# Altium footprint library footprints.PcbLib: 154 footprints (part 7 of 10)
Each footprint in its own frame and in the unit in brackets; x right, y up, seen from the top. Pads: shape width x height; smd on the part's side, far side on the other; paste and mask are expansions set on the pad; w line width, h text height; cw(c..) or ccw(c..) is an arc to the next point about the centre after c.
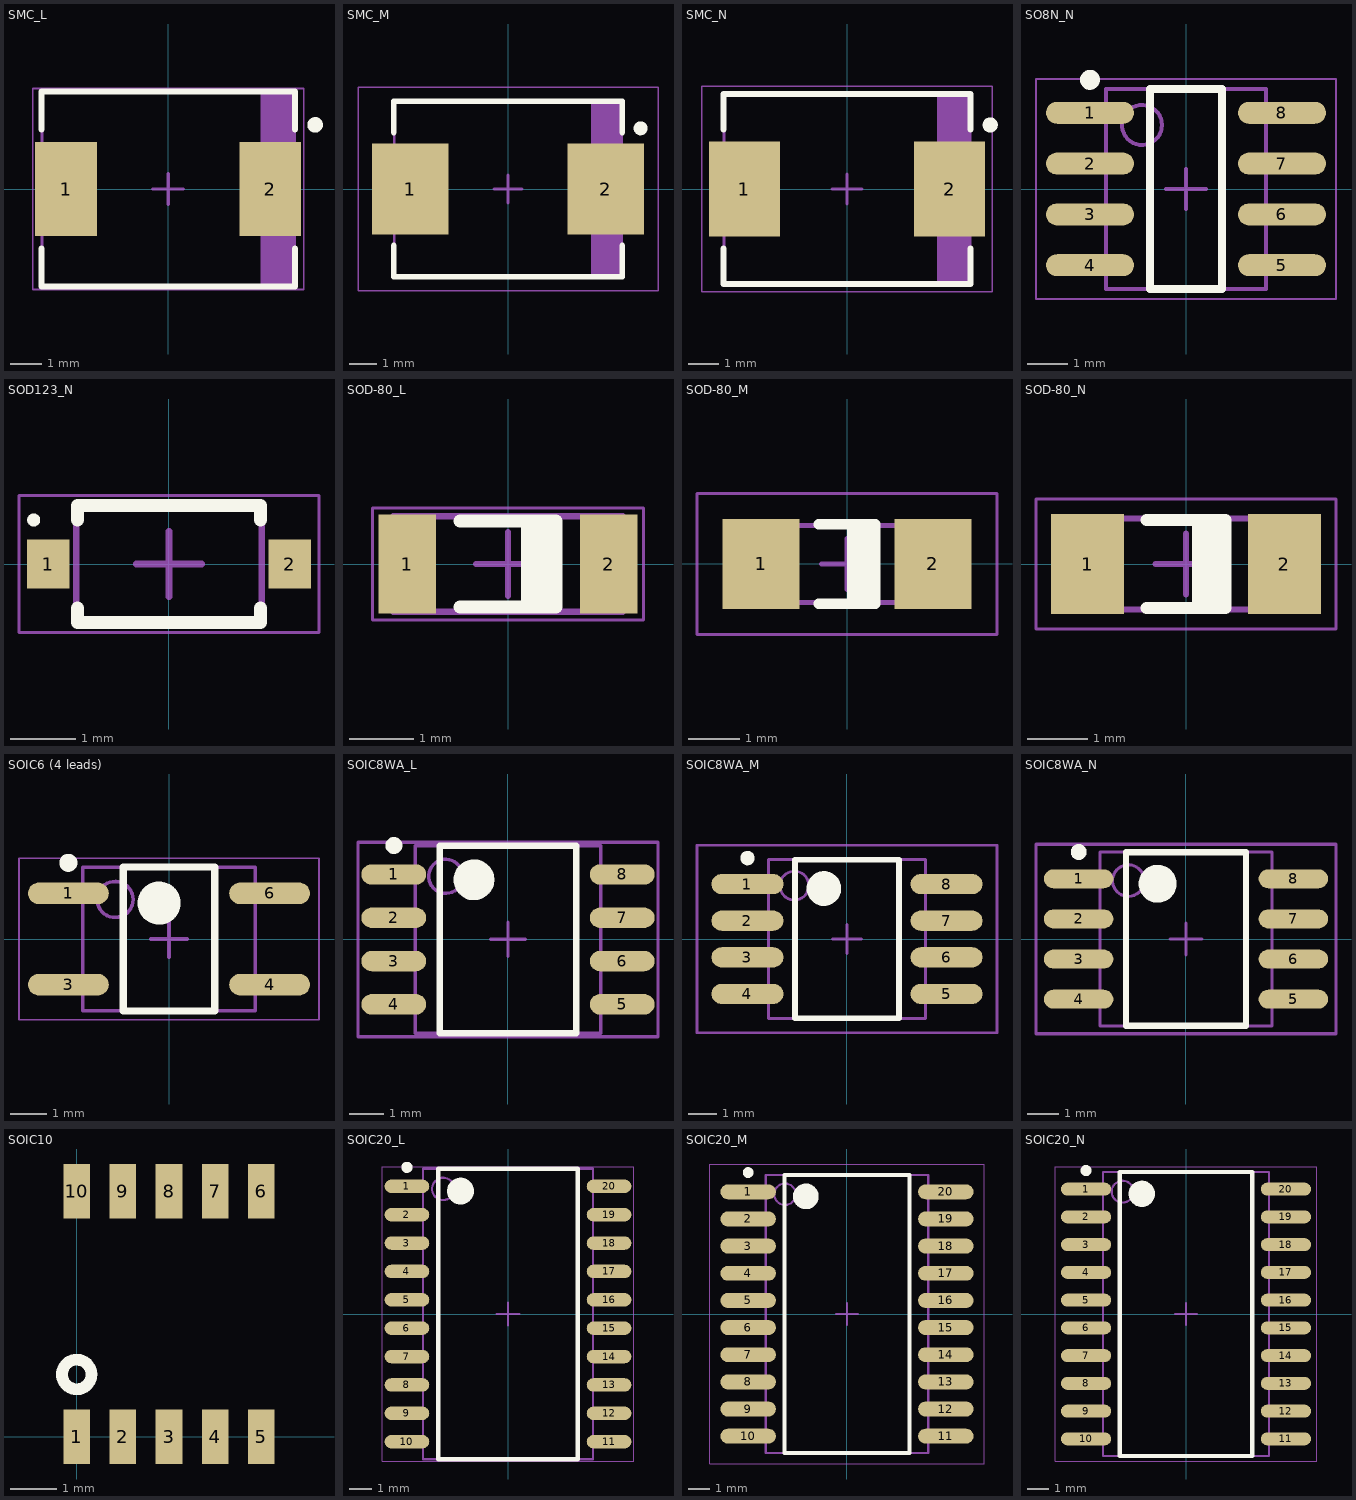
[diagram p6: the footprints below, top view; thin cyan lines are the x and y axes]

## SMC_L [mm] "Molded Diode, 2-Leads, Body 7,95x5,88mm, IPC High Density"
height 2.45
pads (2):
  rect 2x3.05 smd: 1(-3.3,0) 2(3.3,0)
Top Overlay:
  circle w0.25: c4.75,2.075 r0.125
  lines w0.2: -4.1,-1.925 -4.1,-3.15 4.1,-3.15 4.1,-1.925 ; -4.1,1.925 -4.1,3.15 4.1,3.15 4.1,1.925
Mechanical 13:
  rectangle: 2.979,-3.125 4.075,3.125
  lines w0.1: -4.075,-3.125 -4.075,3.125 4.075,3.125 4.075,-3.125 -4.075,-3.125
Mechanical 15:
  lines w0.05: -4.375,-3.25 -4.375,3.25 4.375,3.25 4.375,-3.25 -4.375,-3.25
  lines w0.1: -0.5,0 0.5,0 ; 0,-0.5 0,0.5
3D body: height 2.45, standoff 0, extent -4.075,-3.125 4.075,3.125

## SMC_M [mm] "Molded Diode, 2-Leads, Body 7,95x5,88mm, IPC Low Density"
height 2.45
pads (2):
  rect 2.75x3.25 smd: 1(-3.5,0) 2(3.5,0)
Top Overlay:
  circle w0.25: c4.75,2.175 r0.125
  lines w0.2: -4.1,-2.025 -4.1,-3.15 4.1,-3.15 4.1,-2.025 ; -4.1,2.025 -4.1,3.15 4.1,3.15 4.1,2.025
Mechanical 13:
  rectangle: 2.979,-3.125 4.075,3.125
  lines w0.1: -4.075,-3.125 4.075,-3.125 4.075,3.125 -4.075,3.125 -4.075,-3.125
Mechanical 15:
  lines w0.05: -5.375,-3.65 5.375,-3.65 5.375,3.65 -5.375,3.65 -5.375,-3.65
  lines w0.1: -0.5,0 0.5,0 ; 0,-0.5 0,0.5
3D body: height 2.45, standoff 0, extent -4.075,-3.125 4.075,3.125

## SMC_N [mm] "Molded Diode, 2-Leads, Body 7,95x5,88mm, IPC Medium Density"
height 2.45
pads (2):
  rect 2.35x3.15 smd: 1(-3.4,0) 2(3.4,0)
Top Overlay:
  circle w0.25: c4.75,2.125 r0.125
  lines w0.2: -4.1,-1.975 -4.1,-3.15 4.1,-3.15 4.1,-1.975 ; -4.1,1.975 -4.1,3.15 4.1,3.15 4.1,1.975
Mechanical 13:
  rectangle: 2.979,-3.125 4.075,3.125
  lines w0.1: -4.075,-3.125 -4.075,3.125 4.075,3.125 4.075,-3.125 -4.075,-3.125
Mechanical 15:
  lines w0.05: -4.825,-3.4 -4.825,3.4 4.825,3.4 4.825,-3.4 -4.825,-3.4
  lines w0.1: -0.5,0 0.5,0 ; 0,-0.5 0,0.5
3D body: height 2.45, standoff 0, extent -4.075,-3.125 4.075,3.125

## SO8N_N [mm] "SOIC, 8-Leads, Body 4,90x3,90mm, Pitch 1,27mm, IPC Medium Density"
height 1.75
pads (8):
  oval 2.2x0.55 smd: 1(-2.4,1.905) 2(-2.4,0.635) 3(-2.4,-0.635) 4(-2.4,-1.905) 5(2.4,-1.905) 6(2.4,-0.635) 7(2.4,0.635) 8(2.4,1.905)
Top Overlay:
  circle w0.25: c-2.4,2.73 r0.125
  lines w0.2: -0.9,-2.5 -0.9,2.5 0.9,2.5 0.9,-2.5 -0.9,-2.5
Mechanical 13:
  circle w0.1: c-1.1,1.6 r0.5
  lines w0.1: -2,-2.5 -2,2.5 2,2.5 2,-2.5 -2,-2.5
Mechanical 15:
  lines w0.05: -3.75,-2.75 -3.75,2.75 3.75,2.75 3.75,-2.75 -3.75,-2.75
  lines w0.1: -0.5,0 0.5,0 ; 0,-0.5 0,0.5
3D body: height 1.75, standoff 0.1, extent -2,-2.5 2,2.5

## SOD123_N [mm] "SODFL, 2-Leads, Body 1.60x3.71mm, IPC Medium Density"
height 1.35
pads (2):
  rect 0.65x0.75 smd: 1(-1.85,0) 2(1.85,0)
Top Overlay:
  circle w0.1: c-2.075,0.675 r0.05
  lines w0.2: -1.4,-0.675 -1.4,-0.9 1.4,-0.9 1.4,-0.675 ; -1.4,0.675 -1.4,0.9 1.4,0.9 1.4,0.675
Mechanical 13:
  lines w0.1: -1.42,-0.9 -1.42,0.9 1.42,0.9 1.42,-0.9 -1.42,-0.9
Mechanical 15:
  lines w0.05: -2.3,-1.05 -2.3,1.05 2.3,1.05 2.3,-1.05 -2.3,-1.05
  lines w0.1: -0.5,0 0.5,0 ; 0,-0.5 0,0.5
3D body: height 1.35, standoff 0, extent -1.42,-0.9 1.42,0.9

## SOD-80_L [mm] "MELF Diode, 2-Leads, Body 3,45x1,40mm, IPC High Density"
height 1.5
pads (2):
  rect 0.9x1.55 smd: 1(-1.575,0) 2(1.575,0)
Top Overlay:
  rectangle: 0.2,-0.675 0.75,0.675
  lines w0.2: -0.75,-0.675 0.75,-0.675 0.75,0.675 -0.75,0.675
Mechanical 13:
  lines w0.1: -1.8,-0.75 1.8,-0.75 1.8,0.75 -1.8,0.75 -1.8,-0.75
Mechanical 15:
  lines w0.05: -2.125,-0.875 2.125,-0.875 2.125,0.875 -2.125,0.875 -2.125,-0.875
  lines w0.1: -0.5,0 0.5,0 ; 0,-0.5 0,0.5
3D body: height 1.49, standoff 0, extent 1.3,-0.75 1.8,0.747
3D body: height 1.48, standoff 0.04, extent -1.3,-0.72 1.3,0.717
3D body: height 1.48, standoff 0.04, extent 0.1,-0.721 0.7,0.718
3D body: height 1.49, standoff 0, extent -1.8,-0.75 -1.3,0.747

## SOD-80_M [mm] "MELF Diode, 2-Leads, Body 3,45x1,40mm, IPC Low Density"
height 1.5
pads (2):
  rect 1.5x1.75 smd: 1(-1.675,0) 2(1.675,0)
Top Overlay:
  rectangle: 0,-0.775 0.55,0.775
  lines w0.2: -0.55,-0.775 0.55,-0.775 0.55,0.775 -0.55,0.775
Mechanical 13:
  lines w0.1: -1.8,-0.75 -1.8,0.75 1.8,0.75 1.8,-0.75 -1.8,-0.75
Mechanical 15:
  lines w0.05: -2.925,-1.375 -2.925,1.375 2.925,1.375 2.925,-1.375 -2.925,-1.375
  lines w0.1: -0.5,0 0.5,0 ; 0,-0.5 0,0.5
3D body: height 1.49, standoff 0, extent -1.8,-0.75 -1.3,0.747
3D body: height 1.48, standoff 0.04, extent 0.1,-0.721 0.7,0.718
3D body: height 1.48, standoff 0.04, extent -1.3,-0.72 1.3,0.717
3D body: height 1.49, standoff 0, extent 1.3,-0.75 1.8,0.747

## SOD-80_N [mm] "MELF Diode, 2-Leads, Body 3,45x1,40mm, IPC Medium Density"
height 1.5
pads (2):
  rect 1.2x1.65 smd: 1(-1.625,0) 2(1.625,0)
Top Overlay:
  rectangle: 0.1,-0.725 0.65,0.725
  lines w0.2: -0.65,-0.725 0.65,-0.725 0.65,0.725 -0.65,0.725
Mechanical 13:
  lines w0.1: -1.8,-0.75 1.8,-0.75 1.8,0.75 -1.8,0.75 -1.8,-0.75
Mechanical 15:
  lines w0.05: -2.475,-1.075 2.475,-1.075 2.475,1.075 -2.475,1.075 -2.475,-1.075
  lines w0.1: -0.5,0 0.5,0 ; 0,-0.5 0,0.5
3D body: height 1.49, standoff 0, extent 1.3,-0.75 1.8,0.747
3D body: height 1.48, standoff 0.04, extent -1.3,-0.72 1.3,0.717
3D body: height 1.48, standoff 0.04, extent 0.1,-0.721 0.7,0.718
3D body: height 1.49, standoff 0, extent -1.8,-0.75 -1.3,0.747

## SOIC6 (4 leads) [mm] "SOIC, SMD 6, 4-Leads, Body 3,75x4,60mm, Pitch 1,27mm, IPC Medium Density"
height 2.2
pads (4):
  oval 2.25x0.6 smd: 1(-2.8,1.27) 3(-2.8,-1.27) 4(2.8,-1.27) 6(2.8,1.27)
Top Overlay:
  circle w0.6: c-0.275,1 r0.3
  circle w0.25: c-2.8,2.12 r0.125
  lines w0.2: -1.275,-2 1.275,-2 1.275,2 -1.275,2 -1.275,-2
Mechanical 13:
  circle w0.1: c-1.5,1.1 r0.5
  lines w0.1: -2.4,-2 2.4,-2 2.4,2 -2.4,2 -2.4,-2
Mechanical 15:
  lines w0.05: -4.175,-2.25 4.175,-2.25 4.175,2.25 -4.175,2.25 -4.175,-2.25
  lines w0.1: -0.5,0 0.5,0 ; 0,-0.5 0,0.5
3D body: height 2.2, standoff 0.1, extent -2.4,-2 2.4,2

## SOIC8WA_L [mm] "SOP, 8-Leads, Body 5.3x5.3mm, Pitch 1.27mm, IPC High Density"
height 2.13
pads (8):
  oval 1.9x0.6 smd: 1(-3.35,1.905) 2(-3.35,0.635) 3(-3.35,-0.635) 4(-3.35,-1.905) 5(3.35,-1.905) 6(3.35,-0.635) 7(3.35,0.635) 8(3.35,1.905)
Top Overlay:
  circle w0.25: c-3.35,2.755 r0.125
  circle w0.6: c-1,1.75 r0.3
  lines w0.2: -2,-2.75 -2,2.75 2,2.75 2,-2.75 -2,-2.75
Mechanical 13:
  circle w0.1: c-1.825,1.85 r0.5
  lines w0.1: -2.725,-2.75 -2.725,2.75 2.725,2.75 2.725,-2.75 -2.725,-2.75
Mechanical 15:
  lines w0.1: -0.5,0 0.5,0 ; 0,-0.5 0,0.5 ; -4.4,-2.85 -4.4,2.85 4.4,2.85 4.4,-2.85 -4.4,-2.85
3D body: height 2.13, standoff 0, extent -2.725,-2.75 2.725,2.75

## SOIC8WA_M [mm] "SOP, 8-Leads, Body 5.3x5.3mm, Pitch 1.27mm, IPC Low Density"
height 2.13
pads (8):
  oval 2.5x0.7 smd: 1(-3.45,1.905) 2(-3.45,0.635) 3(-3.45,-0.635) 4(-3.45,-1.905) 5(3.45,-1.905) 6(3.45,-0.635) 7(3.45,0.635) 8(3.45,1.905)
Top Overlay:
  circle w0.6: c-0.8,1.75 r0.3
  circle w0.25: c-3.45,2.805 r0.125
  lines w0.2: -1.8,-2.75 1.8,-2.75 1.8,2.75 -1.8,2.75 -1.8,-2.75
Mechanical 13:
  circle w0.1: c-1.825,1.85 r0.5
  lines w0.1: -2.725,-2.75 2.725,-2.75 2.725,2.75 -2.725,2.75 -2.725,-2.75
Mechanical 15:
  lines w0.1: -0.5,0 0.5,0 ; 0,-0.5 0,0.5 ; -5.2,-3.25 5.2,-3.25 5.2,3.25 -5.2,3.25 -5.2,-3.25
3D body: height 2.13, standoff 0, extent -2.725,-2.75 2.725,2.75

## SOIC8WA_N [mm] "SOP, 8-Leads, Body 5.3x5.3mm, Pitch 1.27mm, IPC Medium Density"
height 2.13
pads (8):
  oval 2.2x0.6 smd: 1(-3.4,1.905) 2(-3.4,0.635) 3(-3.4,-0.635) 4(-3.4,-1.905) 5(3.4,-1.905) 6(3.4,-0.635) 7(3.4,0.635) 8(3.4,1.905)
Top Overlay:
  circle w0.25: c-3.4,2.755 r0.125
  circle w0.6: c-0.9,1.75 r0.3
  lines w0.2: -1.9,-2.75 -1.9,2.75 1.9,2.75 1.9,-2.75 -1.9,-2.75
Mechanical 13:
  circle w0.1: c-1.825,1.85 r0.5
  lines w0.1: -2.725,-2.75 -2.725,2.75 2.725,2.75 2.725,-2.75 -2.725,-2.75
Mechanical 15:
  lines w0.1: -0.5,0 0.5,0 ; 0,-0.5 0,0.5 ; -4.75,-3 -4.75,3 4.75,3 4.75,-3 -4.75,-3
3D body: height 2.13, standoff 0, extent -2.725,-2.75 2.725,2.75

## SOIC10 [mm]
pads (10):
  rect 0.58x1.18 smd: 1(0,0) 2(1,0) 3(2,0) 4(3,0) 5(4,0) 6(4,5.32) 7(3,5.32) 8(2,5.32) 9(1,5.32) 10(0,5.32)
Top Overlay:
  circle w0.254: c0,1.35 r0.32
3D body: height 1.75, standoff 0, extent -0.55,0.675 4.45,4.675

## SOIC20_L [mm] "SOIC, 20-Leads, Body 12,80x7,50mm, Pitch 1,27mm, IPC High Density"
height 2.65
pads (20):
  oval 2x0.6 smd: 1(-4.525,5.715) 2(-4.525,4.445) 3(-4.525,3.175) 4(-4.525,1.905) 5(-4.525,0.635) 6(-4.525,-0.635) 7(-4.525,-1.905) 8(-4.525,-3.175) 9(-4.525,-4.445) 10(-4.525,-5.715) 11(4.525,-5.715) 12(4.525,-4.445) 13(4.525,-3.175) 14(4.525,-1.905) 15(4.525,-0.635) 16(4.525,0.635) 17(4.525,1.905) 18(4.525,3.175) 19(4.525,4.445) 20(4.525,5.715)
Top Overlay:
  circle w0.25: c-4.525,6.565 r0.125
  circle w0.6: c-2.125,5.5 r0.3
  lines w0.2: -3.125,-6.5 -3.125,6.5 3.125,6.5 3.125,-6.5 -3.125,-6.5
Mechanical 13:
  circle w0.1: c-2.9,5.6 r0.5
  lines w0.1: -3.8,-6.5 -3.8,6.5 3.8,6.5 3.8,-6.5 -3.8,-6.5
Mechanical 15:
  lines w0.05: -5.625,-6.6 -5.625,6.6 5.625,6.6 5.625,-6.6 -5.625,-6.6
  lines w0.1: -0.5,0 0.5,0 ; 0,-0.5 0,0.5
3D body: height 2.65, standoff 0.1, extent -3.8,-6.5 3.8,6.5

## SOIC20_M [mm] "SOIC, 20-Leads, Body 12,80x7,50mm, Pitch 1,27mm, IPC Low Density"
height 2.65
pads (20):
  oval 2.6x0.7 smd: 1(-4.625,5.715) 2(-4.625,4.445) 3(-4.625,3.175) 4(-4.625,1.905) 5(-4.625,0.635) 6(-4.625,-0.635) 7(-4.625,-1.905) 8(-4.625,-3.175) 9(-4.625,-4.445) 10(-4.625,-5.715) 11(4.625,-5.715) 12(4.625,-4.445) 13(4.625,-3.175) 14(4.625,-1.905) 15(4.625,-0.635) 16(4.625,0.635) 17(4.625,1.905) 18(4.625,3.175) 19(4.625,4.445) 20(4.625,5.715)
Top Overlay:
  circle w0.6: c-1.925,5.5 r0.3
  circle w0.25: c-4.625,6.615 r0.125
  lines w0.2: -2.925,-6.5 2.925,-6.5 2.925,6.5 -2.925,6.5 -2.925,-6.5
Mechanical 13:
  circle w0.1: c-2.9,5.6 r0.5
  lines w0.1: -3.8,-6.5 3.8,-6.5 3.8,6.5 -3.8,6.5 -3.8,-6.5
Mechanical 15:
  lines w0.05: -6.425,-7 6.425,-7 6.425,7 -6.425,7 -6.425,-7
  lines w0.1: -0.5,0 0.5,0 ; 0,-0.5 0,0.5
3D body: height 2.65, standoff 0.1, extent -3.8,-6.5 3.8,6.5

## SOIC20_N [mm] "SOIC, 20-Leads, Body 12,80x7,50mm, Pitch 1,27mm, IPC Medium Density"
height 2.65
pads (20):
  oval 2.3x0.6 smd: 1(-4.575,5.715) 2(-4.575,4.445) 3(-4.575,3.175) 4(-4.575,1.905) 5(-4.575,0.635) 6(-4.575,-0.635) 7(-4.575,-1.905) 8(-4.575,-3.175) 9(-4.575,-4.445) 10(-4.575,-5.715) 11(4.575,-5.715) 12(4.575,-4.445) 13(4.575,-3.175) 14(4.575,-1.905) 15(4.575,-0.635) 16(4.575,0.635) 17(4.575,1.905) 18(4.575,3.175) 19(4.575,4.445) 20(4.575,5.715)
Top Overlay:
  circle w0.6: c-2.025,5.5 r0.3
  circle w0.25: c-4.575,6.565 r0.125
  lines w0.2: -3.025,-6.5 3.025,-6.5 3.025,6.5 -3.025,6.5 -3.025,-6.5
Mechanical 13:
  circle w0.1: c-2.9,5.6 r0.5
  lines w0.1: -3.8,-6.5 3.8,-6.5 3.8,6.5 -3.8,6.5 -3.8,-6.5
Mechanical 15:
  lines w0.05: -5.975,-6.75 5.975,-6.75 5.975,6.75 -5.975,6.75 -5.975,-6.75
  lines w0.1: -0.5,0 0.5,0 ; 0,-0.5 0,0.5
3D body: height 2.65, standoff 0.1, extent -3.8,-6.5 3.8,6.5